# Altium schematic symbol library TCMT1109.SchLib: 1 symbol
Pins are listed as number, name and electrical type; pins without a type are passive.

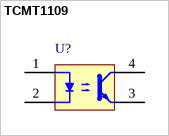
[diagram p0: symbol TCMT1109]

## TCMT1109
designator U?
pins: 1, 2, 3, 4